# Altium schematic symbol library Schlib.SchLib: 1 symbol
Pins are listed as number, name and electrical type; pins without a type are passive.

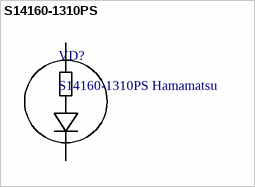
[diagram p0: symbol S14160-1310PS]

## S14160-1310PS
designator VD?, comment S14160-1310PS Hamamatsu
Name: S14160-1310PS; Manufacturer: Hamamatsu
footprint S14160-1310PS
pins: 2 C, 3 A